# Altium footprint library Alps.PcbLib: 1 footprints
Each footprint in its own frame and in the unit in brackets; x right, y up, seen from the top. Pads: shape width x height; smd on the part's side, far side on the other; paste and mask are expansions set on the pad; w line width, h text height; cw(c..) or ccw(c..) is an arc to the next point about the centre after c.
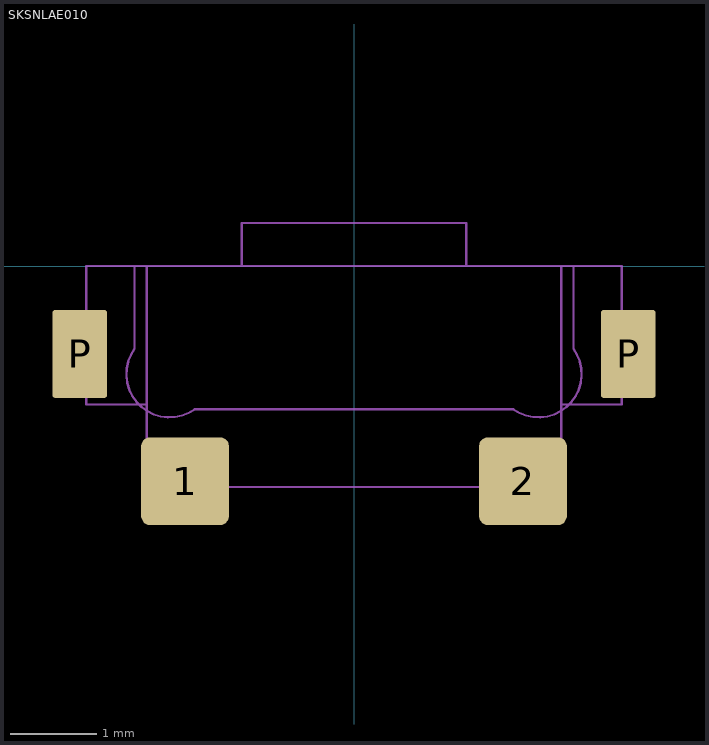
[diagram p0: the footprint, top view; thin cyan lines are the x and y axes]

## SKSNLAE010 [mil] "Tactile Switches Mid MNT SNGL action F2.4N"
pads (4):
  rrect20% 40x40 smd mask+2: 1(-77,-98) 2(77,-98)
  rrect10% 25x40 smd mask+2: P(-125,-40) P(125,-40)
Top Component Outline:
  lines w1: -100,-0.02 -100,-37.67 ccw(c-84.07,-49.23) -72.61,-65.23 72.61,-65.23 ccw(c84.07,-49.23) 100,-37.67 100,-0.02
Top 3D Body (Mech16):
  lines w1: -94.49,-63 -122.05,-63 -122.05,0 122.05,0 122.05,-63 94.49,-63 ; -94.49,0 -94.49,-100.67 94.49,-100.67 94.49,0 ; -51.18,0 -51.18,19.68 51.18,19.68 51.18,0
3D body: height 15.75, standoff -47.24, extent -51.18,0 51.18,19.68
3D body: height 53.15, standoff -84.65, extent -95,-63 94.49,0
3D body: height 53.15, standoff 0.1, extent -122.05,-100.67 122.05,0